# Altium footprint library HC49_S.PcbLib: 1 footprints
Each footprint in its own frame and in the unit in brackets; x right, y up, seen from the top. Pads: shape width x height; smd on the part's side, far side on the other; paste and mask are expansions set on the pad; w line width, h text height; cw(c..) or ccw(c..) is an arc to the next point about the centre after c.
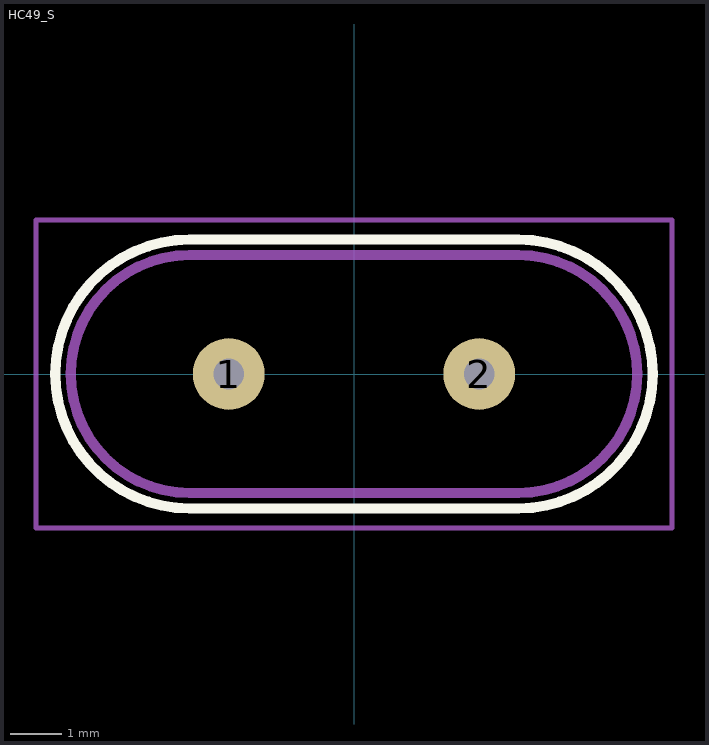
[diagram p0: the footprint, top view; thin cyan lines are the x and y axes]

## HC49_S [mm] "HC49/S Crystal Oscillator Package"
height 3.5
pads (2):
  round 1.4 hole 0.6: 1(-2.44,0) 2(2.44,0)
Top Overlay:
  lines w0.2: -3.2,-2.62 cw(c-3.2,0) -3.2,2.62 3.2,2.62 cw(c3.2,0) 3.2,-2.62 -3.2,-2.62
Assembly Top:
  lines w0.2: -3.2,-2.32 cw(c-3.2,0) -3.2,2.32 3.2,2.32 cw(c3.2,0) 3.2,-2.32 -3.2,-2.32
Countryard:
  lines w0.1: -6.2,-3 6.2,-3 6.2,3 -6.2,3 -6.2,-3
3D body: height 3.52, standoff -3.98, extent -5.675,-2.3 5.675,2.35